# Altium integrated library WE-DCT Toroidal Double Power Choke.IntLib: 14 symbols
Pins are listed as number, name and electrical type; pins without a type are passive.

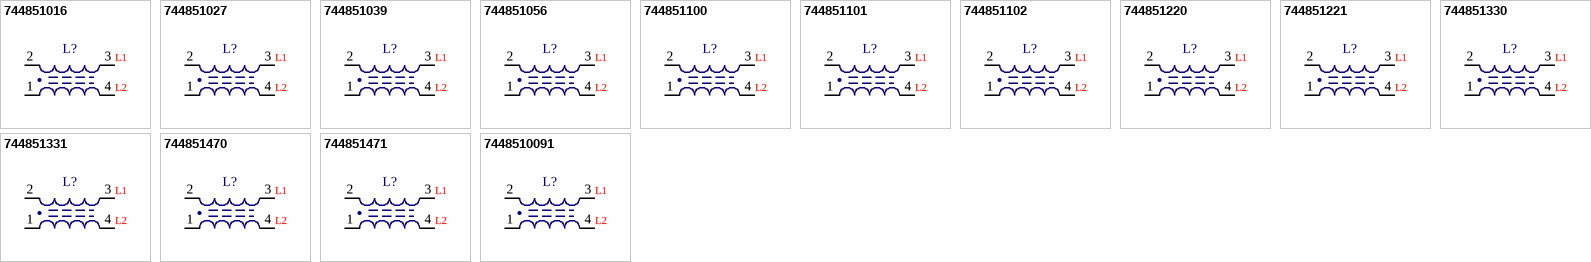
[diagram p0: symbols 744851016 to 7448510091]

## 744851016
designator L?
SMD Shielded Coupled Inductor WE-DCT, L=0.16 µH; PartNumber: 744851016; Inductance: 0.16 µH; PackageReference: WE-DCT TYPE-SH; ComponentLink1Description: Manufacturer URL; ComponentLink1URL: http://www.we-online.com; ComponentLink2Description: Datasheet; ComponentLink2URL: http://katalog.we-online.de/pbs/datasheet/744851016.pdf
footprint WE-DCT TYPE-SH (SMD INDUCTOR, 4-Leads, Body 18.5x23.5mm (max), Pitch 5.00mm)
pins: 1, 2, 3, 4
text: L1; L2

## 744851027
designator L?
SMD Shielded Coupled Inductor WE-DCT, L=0.27 µH; PartNumber: 744851027; Inductance: 0.27 µH; PackageReference: WE-DCT TYPE-SH; ComponentLink1Description: Manufacturer URL; ComponentLink1URL: http://www.we-online.com; ComponentLink2Description: Datasheet; ComponentLink2URL: http://katalog.we-online.de/pbs/datasheet/744851027.pdf
footprint WE-DCT TYPE-SH (SMD INDUCTOR, 4-Leads, Body 18.5x23.5mm (max), Pitch 5.00mm)
pins: 1, 2, 3, 4
text: L1; L2

## 744851039
designator L?
SMD Shielded Coupled Inductor WE-DCT, L=0.39 µH; PartNumber: 744851039; Inductance: 0.39 µH; PackageReference: WE-DCT TYPE-SH; ComponentLink1Description: Manufacturer URL; ComponentLink1URL: http://www.we-online.com; ComponentLink2Description: Datasheet; ComponentLink2URL: http://katalog.we-online.de/pbs/datasheet/744851039.pdf
footprint WE-DCT TYPE-SH (SMD INDUCTOR, 4-Leads, Body 18.5x23.5mm (max), Pitch 5.00mm)
pins: 1, 2, 3, 4
text: L1; L2

## 744851056
designator L?
SMD Shielded Coupled Inductor WE-DCT, L=0.56 µH; PartNumber: 744851056; Inductance: 0.56 µH; PackageReference: WE-DCT TYPE-SH; ComponentLink1Description: Manufacturer URL; ComponentLink1URL: http://www.we-online.com; ComponentLink2Description: Datasheet; ComponentLink2URL: http://katalog.we-online.de/pbs/datasheet/744851056.pdf
footprint WE-DCT TYPE-SH (SMD INDUCTOR, 4-Leads, Body 18.5x23.5mm (max), Pitch 5.00mm)
pins: 1, 2, 3, 4
text: L1; L2

## 744851100
designator L?
SMD Shielded Coupled Inductor WE-DCT, L=1.0 µH; PartNumber: 744851100; Inductance: 1.0 µH; PackageReference: WE-DCT TYPE-SH; ComponentLink1Description: Manufacturer URL; ComponentLink1URL: http://www.we-online.com; ComponentLink2Description: Datasheet; ComponentLink2URL: http://katalog.we-online.de/pbs/datasheet/744851100.pdf
footprint WE-DCT TYPE-SH (SMD INDUCTOR, 4-Leads, Body 18.5x23.5mm (max), Pitch 5.00mm)
pins: 1, 2, 3, 4
text: L1; L2

## 744851101
designator L?
SMD Shielded Coupled Inductor WE-DCT, L=10.0 µH; PartNumber: 744851101; Inductance: 10.0 µH; PackageReference: WE-DCT TYPE-SH; ComponentLink1Description: Manufacturer URL; ComponentLink1URL: http://www.we-online.com; ComponentLink2Description: Datasheet; ComponentLink2URL: http://katalog.we-online.de/pbs/datasheet/744851101.pdf
footprint WE-DCT TYPE-SH (SMD INDUCTOR, 4-Leads, Body 18.5x23.5mm (max), Pitch 5.00mm)
pins: 1, 2, 3, 4
text: L1; L2

## 744851102
designator L?
SMD Shielded Coupled Inductor WE-DCT, L=100.0 µH; PartNumber: 744851102; PackageReference: WE-DCT TYPE-SH; Inductance: 100.0 µH; ComponentLink1Description: Manufacturer URL; ComponentLink1URL: http://www.we-online.com; ComponentLink2Description: Datasheet; ComponentLink2URL: http://katalog.we-online.de/pbs/datasheet/744851102.pdf
footprint WE-DCT TYPE-SH (SMD INDUCTOR, 4-Leads, Body 18.5x23.5mm (max), Pitch 5.00mm)
pins: 1, 2, 3, 4
text: L1; L2

## 744851220
designator L?
SMD Shielded Coupled Inductor WE-DCT, L=2.2 µH; PartNumber: 744851220; Inductance: 2.2 µH; PackageReference: WE-DCT TYPE-SH; ComponentLink1Description: Manufacturer URL; ComponentLink1URL: http://www.we-online.com; ComponentLink2Description: Datasheet; ComponentLink2URL: http://katalog.we-online.de/pbs/datasheet/7448510091.pdf
footprint WE-DCT TYPE-SH (SMD INDUCTOR, 4-Leads, Body 18.5x23.5mm (max), Pitch 5.00mm)
pins: 1, 2, 3, 4
text: L1; L2

## 744851221
designator L?
SMD Shielded Coupled Inductor WE-DCT, L=22.0 µH; PartNumber: 744851221; Inductance: 22.0 µH; PackageReference: WE-DCT TYPE-SH; ComponentLink1Description: Manufacturer URL; ComponentLink1URL: http://www.we-online.com; ComponentLink2Description: Datasheet; ComponentLink2URL: http://katalog.we-online.de/pbs/datasheet/744851221.pdf
footprint WE-DCT TYPE-SH (SMD INDUCTOR, 4-Leads, Body 18.5x23.5mm (max), Pitch 5.00mm)
pins: 1, 2, 3, 4
text: L1; L2

## 744851330
designator L?
SMD Shielded Coupled Inductor WE-DCT, L=3.3 µH; PartNumber: 744851330; Inductance: 3.3 µH; PackageReference: WE-DCT TYPE-SH; ComponentLink1Description: Manufacturer URL; ComponentLink1URL: http://www.we-online.com; ComponentLink2Description: Datasheet; ComponentLink2URL: http://katalog.we-online.de/pbs/datasheet/744851330.pdf
footprint WE-DCT TYPE-SH (SMD INDUCTOR, 4-Leads, Body 18.5x23.5mm (max), Pitch 5.00mm)
pins: 1, 2, 3, 4
text: L1; L2

## 744851331
designator L?
SMD Shielded Coupled Inductor WE-DCT, L=33.0 µH; PartNumber: 744851331; Inductance: 33.0 µH; PackageReference: WE-DCT TYPE-SH; ComponentLink1Description: Manufacturer URL; ComponentLink1URL: http://www.we-online.com; ComponentLink2Description: Datasheet; ComponentLink2URL: http://katalog.we-online.de/pbs/datasheet/744851331.pdf
footprint WE-DCT TYPE-SH (SMD INDUCTOR, 4-Leads, Body 18.5x23.5mm (max), Pitch 5.00mm)
pins: 1, 2, 3, 4
text: L1; L2

## 744851470
designator L?
SMD Shielded Coupled Inductor WE-DCT, L=4.7 µH; PartNumber: 744851470; Inductance: 4.7 µH; PackageReference: WE-DCT TYPE-SH; ComponentLink1Description: Manufacturer URL; ComponentLink1URL: http://www.we-online.com; ComponentLink2Description: Datasheet; ComponentLink2URL: http://katalog.we-online.de/pbs/datasheet/744851470.pdf
footprint WE-DCT TYPE-SH (SMD INDUCTOR, 4-Leads, Body 18.5x23.5mm (max), Pitch 5.00mm)
pins: 1, 2, 3, 4
text: L1; L2

## 744851471
designator L?
SMD Shielded Coupled Inductor WE-DCT, L=47.0 µH; PartNumber: 744851471; Inductance: 47.0 µH; PackageReference: WE-DCT TYPE-SH; ComponentLink1Description: Manufacturer URL; ComponentLink1URL: http://www.we-online.com; ComponentLink2Description: Datasheet; ComponentLink2URL: http://katalog.we-online.de/pbs/datasheet/744851471.pdf
footprint WE-DCT TYPE-SH (SMD INDUCTOR, 4-Leads, Body 18.5x23.5mm (max), Pitch 5.00mm)
pins: 1, 2, 3, 4
text: L1; L2

## 7448510091
designator L?
SMD Shielded Coupled Inductor WE-DCT, L=0.091 µH; PartNumber: 7448510091; PackageReference: WE-DCT TYPE-SH; Inductance: 0.091 µH; ComponentLink1Description: Manufacturer URL; ComponentLink1URL: http://www.we-online.com; ComponentLink2Description: Datasheet; ComponentLink2URL: http://katalog.we-online.de/pbs/datasheet/7448510091.pdf
footprint WE-DCT TYPE-SH (SMD INDUCTOR, 4-Leads, Body 18.5x23.5mm (max), Pitch 5.00mm)
pins: 1, 2, 3, 4
text: L1; L2